# Altium schematic symbol library Diodes.SchLib: 10 symbols
Pins are listed as number, name and electrical type; pins without a type are passive.

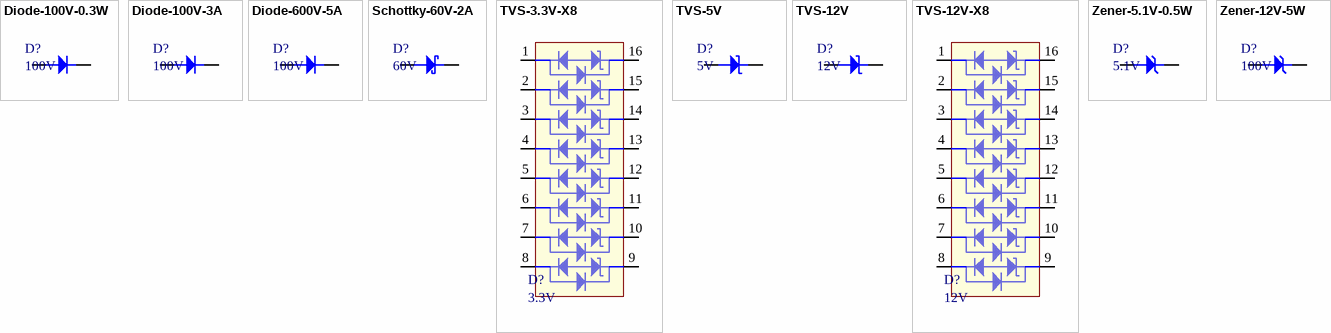
[diagram p0: symbols Diode-100V-0.3W to Zener-12V-5W]

## Diode-100V-0.3W
designator D?, comment 100V
DIODE GEN PURP 100V 300MA SOD123; Manufacturer: Diodes; Manufacturer Part Number: 1N4148W-7-F; Max Surge Current: 2A; Forward Current: 150mA; Peak Reverse Current: 1uA; Recovery Time: 4ns; Forward Voltage: 1.25V; Power Dissipation: 400mW; Element Configuration: Single; Polarity: Standard; Voltage Rating (DC): 75V; Capacitance: 2pF; Supplier 1: Digi-Key; Stock 1: 3713964; Pricing 1: 1=0.16, 10=0.146, 25=0.1388, 100=0.0611, 250=0.05868, 500=0.048, 1000=0.03333 (USD); Mount: Surface Mount; Number of Pins: 2; Weight: 0.000353oz; Contact Plating: Tin,Matte; Min Operating Temperature: -65°C; Max Operating Temperature: 150°C; Package Quantity: 3000; Packaging: Tape and Reel; Average Rectified Current: 300mA; Reverse Recovery Time: 4ns; Max Repetitive Reverse Voltage (Vrrm): 100V; Max Forward Surge Current (Ifsm): 2A; Peak Non-Repetitive Surge Current: 2A; Power Rating: 400mW; Current Rating: 150mA; Output Current: 150mA; Voltage: 100V; Max Reverse Voltage (DC): 100V; Length: 2.85mm; Height: 1.25mm; Width: 1.7mm; Radiation Hardening: No; REACH SVHC: No SVHC; Lead Free: Lead Free; ComponentLink1URL: https://www.diodes.com/assets/Datasheets/ds30086.pdf?src-supplier=Digi-Key; ComponentLink1Description: https://www.diodes.com/assets/Datasheets/ds30086.pdf?src-supplier=Digi-Key; ComponentLink2URL: http://www.farnell.com/datasheets/1915529.pdf?src-supplier=Element14; ComponentLink2Description: http://www.farnell.com/datasheets/1915529.pdf?src-supplier=Element14; ComponentLink3URL: http://www.mouser.com/ds/2/115/ds30086-60872.pdf?src-supplier=Mouser; ComponentLink3Description: http://www.mouser.com/ds/2/115/ds30086-60872.pdf?src-supplier=Mouser; ComponentLink4URL: https://www.diodes.com/assets/Datasheets/ds30086.pdf?src-supplier=Avnet; ComponentLink4Description: https://www.diodes.com/assets/Datasheets/ds30086.pdf?src-supplier=Avnet; ComponentLink5URL: https://www.diodes.com/assets/Datasheets/ds30086.pdf?src-supplier=Avnet+Europe; ComponentLink5Description: https://www.diodes.com/assets/Datasheets/ds30086.pdf?src-supplier=Avnet+Europe; ComponentLink6URL: https://www.diodes.com/assets/Datasheets/ds30086.pdf?src-supplier=Verical; ComponentLink6Description: https://www.diodes.com/assets/Datasheets/ds30086.pdf?src-supplier=Verical; Supplier Part Number 1: 1N4148W-FDIDKR-ND
footprint DIODE-SOD123 (SODFL, 2-Leads, Body 1.60x3.70mm, IPC Medium Density)
pins: 1, 2

## Diode-100V-3A
designator D?, comment 100V
DIODE GEN PURP 100V 3A DO214AA; Manufacturer: MCC; Manufacturer Part Number: S3BB-TP; Max Surge Current: 100A; Forward Voltage: 1.15V; Peak Reverse Current: 10uA; Element Configuration: Single; Supplier 1: Digi-Key; Stock 1: 9444; Pricing 1: 1=0.46, 10=0.376, 25=0.344, 100=0.216, 250=0.2136, 500=0.2, 1000=0.136 (USD); Mount: Surface Mount; Number of Pins: 2; Packaging: Tape and Reel; Package Quantity: 1; Average Rectified Current: 3A; Peak Non-Repetitive Surge Current: 100A; Max Repetitive Reverse Voltage (Vrrm): 100V; Reverse Voltage: 100V; Max Reverse Voltage (DC): 100V; Radiation Hardening: No; Lead Free: Lead Free; ComponentLink1URL: http://www.mccsemi.com/up_pdf/S3AB-S3MB(SMB).PDF?src-supplier=Digi-Key; ComponentLink1Description: http://www.mccsemi.com/up_pdf/S3AB-S3MB(SMB).PDF?src-supplier=Digi-Key; ComponentLink2URL: https://www.verical.com/server-webapp/html/getDatasheet?partID=686538&src-supplier=Verical; ComponentLink2Description: https://www.verical.com/server-webapp/html/getDatasheet?partID=686538&src-supplier=Verical; ComponentLink3URL: http://www.mccsemi.com/up_pdf/S3AB-S3MB(SMB).PDF?src-supplier=Future+Electronics; ComponentLink3Description: http://www.mccsemi.com/up_pdf/S3AB-S3MB(SMB).PDF?src-supplier=Future+Electronics; Supplier Part Number 1: S3BB-TPMSDKR-ND
footprint DO-214AA (Molded Diode, 2-Leads, Body 4.40x3.62mm, IPC Medium Density)
pins: 1, 2

## Diode-600V-5A
designator D?, comment 100V
DIODE GEN PURP 600V 5A SMB; Manufacturer: MCC; Manufacturer Part Number: SK510B-LTP; Mount: Surface Mount; Case/Package: SMB; Number of Pins: 2; Packaging: Tape and Reel; Average Rectified Current: 5A; Max Reverse Voltage (DC): 100V; ComponentLink1URL: http://components.arrow.com/part/dataview/49208388S301832N2022?src-supplier=Arrow; ComponentLink1Description: http://components.arrow.com/part/dataview/49208388S301832N2022?src-supplier=Arrow; ComponentLink2URL: http://www.mccsemi.com/up_pdf/SK52B-L-SK520B-L(DO-214AA).pdf?src-supplier=Digi-Key; ComponentLink2Description: http://www.mccsemi.com/up_pdf/SK52B-L-SK520B-L(DO-214AA).pdf?src-supplier=Digi-Key; Supplier 1: Digi-Key; Stock 1: 68219; Pricing 1: 1=0.4, 10=0.3, 25=0.2628, 100=0.1427, 250=0.14192, 500=0.11638, 1000=0.08634 (USD); ComponentLink3URL: http://www.smc-diodes.com/propdf/SD560B%20N1412%20REV.D.pdf?src-supplier=Digi-Key; ComponentLink3Description: http://www.smc-diodes.com/propdf/SD560B%20N1412%20REV.D.pdf?src-supplier=Digi-Key; Supplier Part Number 1: 1655-1530-6-ND
footprint DO-214AA (Molded Diode, 2-Leads, Body 4.40x3.62mm, IPC Medium Density)
pins: 1, 2

## Schottky-60V-2A
designator D?, comment 60V
DIODE SCHOTTKY 60V 2A SOD123W; Manufacturer: Nexperia; Manufacturer Part Number: PMEG6020ER,115; Supplier 1: Digi-Key; Stock 1: 416751; Pricing 1: 1=0.35, 10=0.287, 25=0.2624, 100=0.1647, 250=0.16288, 500=0.1525, 1000=0.1037 (USD); ComponentLink1URL: http://www.farnell.com/datasheets/609333.pdf?src-supplier=Newark; ComponentLink1Description: http://www.farnell.com/datasheets/609333.pdf?src-supplier=Newark; ComponentLink2URL: http://www.farnell.com/datasheets/609333.pdf?src-supplier=Farnell; ComponentLink2Description: http://www.farnell.com/datasheets/609333.pdf?src-supplier=Farnell; ComponentLink3URL: https://assets.nexperia.com/documents/data-sheet/PMEG6020ER.pdf?src-supplier=Digi-Key; ComponentLink3Description: https://assets.nexperia.com/documents/data-sheet/PMEG6020ER.pdf?src-supplier=Digi-Key; Supplier Part Number 1: 1727-5217-6-ND
footprint Diode-SOD123W (SODFL, 2-Leads, Body 1.70x3.50mm, IPC Medium Density)
pins: 1, 2

## TVS-3.3V-X8
designator D?, comment 3.3V
PD 300W VWM 3.3VCJ 25PFPACKAGE S; Supplier 1: Digi-Key; Supplier Part Number 1: 1655-2157-1-ND
footprint 16-SO (SOIC, 16-Leads, Body 10.2x4.15mm, Pitch 1.27mm, IPC Medium Density)
pins: 1, 2, 3, 4, 5, 6, 7, 8, 9, 10, 11, 12, 13, 14, 15, 16

## TVS-5V
designator D?, comment 5V
TVS DIODE 5V SOD323; Manufacturer: Nexperia; Manufacturer Part Number: PESD5V0U1UA,115; Supplier 1: Digi-Key; Stock 1: 127058; Pricing 1: 1=0.43, 10=0.32, 25=0.28, 100=0.152, 250=0.1512, 500=0.124, 1000=0.092 (USD); ComponentLink1URL: https://assets.nexperia.com/documents/data-sheet/PESD5V0U1UA_UB_UL.pdf?src-supplier=Digi-Key; ComponentLink1Description: https://assets.nexperia.com/documents/data-sheet/PESD5V0U1UA_UB_UL.pdf?src-supplier=Digi-Key; ComponentLink2URL: http://www.farnell.com/datasheets/453996.pdf?src-supplier=Farnell; ComponentLink2Description: http://www.farnell.com/datasheets/453996.pdf?src-supplier=Farnell; Supplier Part Number 1: 1727-4155-6-ND
footprint DIODE-SOD323 (SODFL, 2-Leads, Body 1.25x2.50mm, IPC Medium Density)
pins: 1, 2

## TVS-12V
designator D?, comment 12V
TVS DIODE 12V 27V SOD323; Supplier 1: Digi-Key; Supplier Part Number 1: 1727-5160-1-ND
footprint DIODE-SOD323 (SODFL, 2-Leads, Body 1.25x2.50mm, IPC Medium Density)
pins: 1, 2

## TVS-12V-X8
designator D?, comment 12V
PD 300W VWM 12VCJ 25PFPACKAGE SO; Supplier 1: Digi-Key; Supplier Part Number 1: 1655-2159-1-ND
footprint 16-SO (SOIC, 16-Leads, Body 10.2x4.15mm, Pitch 1.27mm, IPC Medium Density)
pins: 1, 2, 3, 4, 5, 6, 7, 8, 9, 10, 11, 12, 13, 14, 15, 16

## Zener-5.1V-0.5W
designator D?, comment 5.1V
DIODE ZENER 5.1V 500MW SOD123; Manufacturer: MCC; Manufacturer Part Number: MMSZ4689-TP; Tolerance: 5%; Max Reverse Leakage Current: 10uA; Test Current: 50uA; Element Configuration: Single; Supplier 1: Digi-Key; Stock 1: 77807; Pricing 1: 1=0.2, 10=0.161, 25=0.1352, 100=0.066, 250=0.06496, 500=0.05506, 1000=0.03825 (USD); Mount: Surface Mount; Number of Pins: 2; Min Operating Temperature: -55°C; Max Operating Temperature: 150°C; Package Quantity: 3000; Packaging: Tape and Reel; Zener Voltage: 5.1V; Max Power Dissipation: 500mW; Voltage Tolerance: 5%; Power Dissipation: 500mW; Zener Current: 50uA; Lead Free: Lead Free; ComponentLink1URL: http://www.mccsemi.com/up_pdf/MMSZ4678-MMSZ4716(SOD-123)-D.pdf?src-supplier=Digi-Key; ComponentLink1Description: http://www.mccsemi.com/up_pdf/MMSZ4678-MMSZ4716(SOD-123)-D.pdf?src-supplier=Digi-Key; Supplier Part Number 1: MMSZ4689-TPMSDKR-ND
footprint DIODE-SOD123 (SODFL, 2-Leads, Body 1.60x3.70mm, IPC Medium Density)
pins: 1, 2

## Zener-12V-5W
designator D?, comment 100V
DIODE ZENER 12V 5W DO214AA; Manufacturer: MCC; Manufacturer Part Number: SMBJ5349B-TP; Tolerance: 5%; Forward Voltage: 1.2V; Max Reverse Leakage Current: 2uA; Impedance: 2.5R; Zener Current: 395mA; Test Current: 100mA; Element Configuration: Single; Supplier 1: Digi-Key; Stock 1: 17062; Pricing 1: 1=0.59, 10=0.521, 25=0.49, 100=0.3555, 250=0.34288, 500=0.29704, 1000=0.2528 (USD); Mount: Surface Mount; Case/Package: SMB; Number of Pins: 2; Min Operating Temperature: -55°C; Max Operating Temperature: 150°C; Package Quantity: 3000; Packaging: Tape and Reel; Power Dissipation: 5W; Zener Voltage: 12V; Voltage Tolerance: 5%; Max Power Dissipation: 5W; Working Voltage: 12V; Peak Reverse Current: 2uA; Radiation Hardening: No; Lead Free: Lead Free; ComponentLink1URL: http://www.mccsemi.com/up_pdf/SMBJ5338B-SMBJ5388B(SMB).pdf?src-supplier=Digi-Key; ComponentLink1Description: http://www.mccsemi.com/up_pdf/SMBJ5338B-SMBJ5388B(SMB).pdf?src-supplier=Digi-Key; ComponentLink2URL: http://www.mccsemi.com/up_pdf/SMBJ5338B-SMBJ5388B(SMB).pdf?src-supplier=Future+Electronics; ComponentLink2Description: http://www.mccsemi.com/up_pdf/SMBJ5338B-SMBJ5388B(SMB).pdf?src-supplier=Future+Electronics; ComponentLink3URL: https://www.verical.com/server-webapp/html/getDatasheet?partID=147575&src-supplier=Verical; ComponentLink3Description: https://www.verical.com/server-webapp/html/getDatasheet?partID=147575&src-supplier=Verical; Supplier Part Number 1: SMBJ5349B-TPMSDKR-ND
footprint DO-214AA (Molded Diode, 2-Leads, Body 4.40x3.62mm, IPC Medium Density)
pins: 1, 2